# Altium footprint library IPC-SM-782 Section 14.1.1 PBGA 1.5mm.PcbLib: 50 footprints (part 3 of 7)
Each footprint in its own frame and in the unit in brackets; x right, y up, seen from the top. Pads: shape width x height; smd on the part's side, far side on the other; paste and mask are expansions set on the pad; w line width, h text height; cw(c..) or ccw(c..) is an arc to the next point about the centre after c.
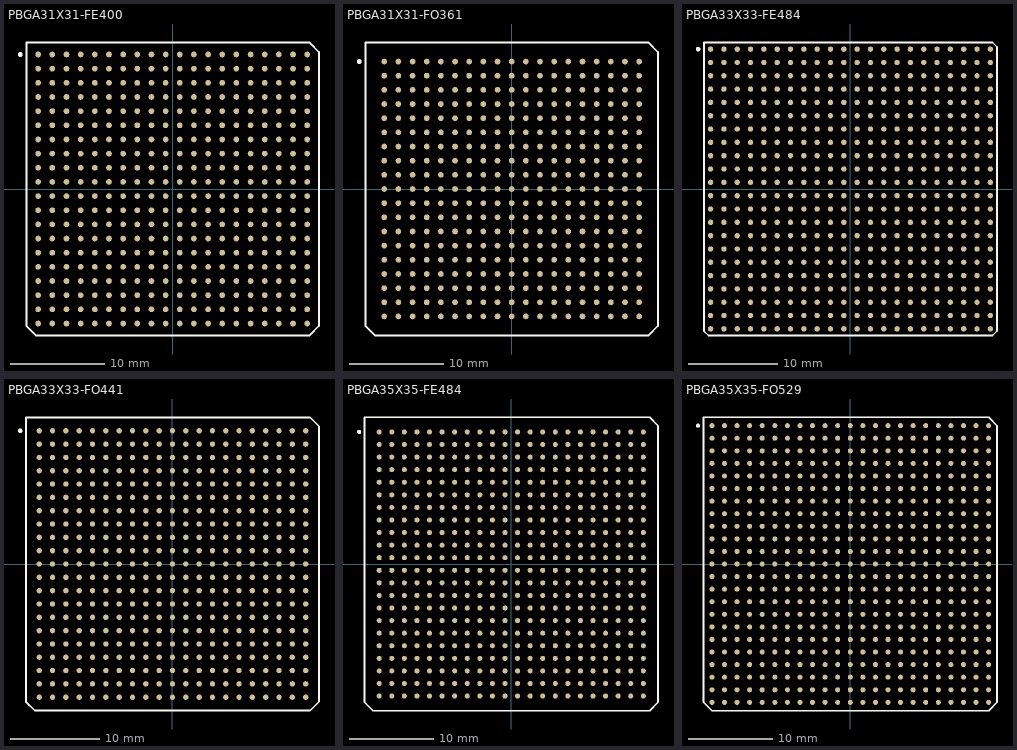
[diagram p2: the footprints below, top view; thin cyan lines are the x and y axes]

## PBGA31X31-FE400 [mm] "BGA; 400 Balls; Body 31 x 31 mm; Pitch 1.5 mm"
height 3.5
pads (400):
  round 0.6 smd: A1(-14.25,14.25) A2(-12.75,14.25) A3(-11.25,14.25) A4(-9.75,14.25) A5(-8.25,14.25) A6(-6.75,14.25) A7(-5.25,14.25) A8(-3.75,14.25) A9(-2.25,14.25) A10(-0.75,14.25) A11(0.75,14.25) A12(2.25,14.25) A13(3.75,14.25) A14(5.25,14.25) A15(6.75,14.25) A16(8.25,14.25) A17(9.75,14.25) A18(11.25,14.25) A19(12.75,14.25) A20(14.25,14.25) B1(-14.25,12.75) B2(-12.75,12.75) B3(-11.25,12.75) B4(-9.75,12.75) B5(-8.25,12.75) B6(-6.75,12.75) B7(-5.25,12.75) B8(-3.75,12.75) B9(-2.25,12.75) B10(-0.75,12.75) B11(0.75,12.75) B12(2.25,12.75) B13(3.75,12.75) B14(5.25,12.75) B15(6.75,12.75) B16(8.25,12.75) B17(9.75,12.75) B18(11.25,12.75) B19(12.75,12.75) B20(14.25,12.75) C1(-14.25,11.25) C2(-12.75,11.25) C3(-11.25,11.25) C4(-9.75,11.25) C5(-8.25,11.25) C6(-6.75,11.25) C7(-5.25,11.25) C8(-3.75,11.25) C9(-2.25,11.25) C10(-0.75,11.25) C11(0.75,11.25) C12(2.25,11.25) C13(3.75,11.25) C14(5.25,11.25) C15(6.75,11.25) C16(8.25,11.25) C17(9.75,11.25) C18(11.25,11.25) C19(12.75,11.25) C20(14.25,11.25) D1(-14.25,9.75) D2(-12.75,9.75) D3(-11.25,9.75) D4(-9.75,9.75) D5(-8.25,9.75) D6(-6.75,9.75) D7(-5.25,9.75) D8(-3.75,9.75) D9(-2.25,9.75) D10(-0.75,9.75) D11(0.75,9.75) D12(2.25,9.75) D13(3.75,9.75) D14(5.25,9.75) D15(6.75,9.75) D16(8.25,9.75) D17(9.75,9.75) D18(11.25,9.75) D19(12.75,9.75) D20(14.25,9.75) E1(-14.25,8.25) E2(-12.75,8.25) E3(-11.25,8.25) E4(-9.75,8.25) E5(-8.25,8.25) E6(-6.75,8.25) E7(-5.25,8.25) E8(-3.75,8.25) E9(-2.25,8.25) E10(-0.75,8.25) E11(0.75,8.25) E12(2.25,8.25) E13(3.75,8.25) E14(5.25,8.25) E15(6.75,8.25) E16(8.25,8.25) E17(9.75,8.25) E18(11.25,8.25) E19(12.75,8.25) E20(14.25,8.25) F1(-14.25,6.75) F2(-12.75,6.75) F3(-11.25,6.75) F4(-9.75,6.75) F5(-8.25,6.75) F6(-6.75,6.75) F7(-5.25,6.75) F8(-3.75,6.75) F9(-2.25,6.75) F10(-0.75,6.75) F11(0.75,6.75) F12(2.25,6.75) F13(3.75,6.75) F14(5.25,6.75) F15(6.75,6.75) F16(8.25,6.75) F17(9.75,6.75) F18(11.25,6.75) F19(12.75,6.75) F20(14.25,6.75) G1(-14.25,5.25) G2(-12.75,5.25) G3(-11.25,5.25) G4(-9.75,5.25) G5(-8.25,5.25) G6(-6.75,5.25) G7(-5.25,5.25) G8(-3.75,5.25) G9(-2.25,5.25) G10(-0.75,5.25) G11(0.75,5.25) G12(2.25,5.25) G13(3.75,5.25) G14(5.25,5.25) G15(6.75,5.25) G16(8.25,5.25) G17(9.75,5.25) G18(11.25,5.25) G19(12.75,5.25) G20(14.25,5.25) H1(-14.25,3.75) H2(-12.75,3.75) H3(-11.25,3.75) H4(-9.75,3.75) H5(-8.25,3.75) H6(-6.75,3.75) H7(-5.25,3.75) H8(-3.75,3.75) H9(-2.25,3.75) H10(-0.75,3.75) H11(0.75,3.75) H12(2.25,3.75) H13(3.75,3.75) H14(5.25,3.75) H15(6.75,3.75) H16(8.25,3.75) H17(9.75,3.75) H18(11.25,3.75) H19(12.75,3.75) H20(14.25,3.75) J1(-14.25,2.25) J2(-12.75,2.25) J3(-11.25,2.25) J4(-9.75,2.25) J5(-8.25,2.25) J6(-6.75,2.25) J7(-5.25,2.25) J8(-3.75,2.25) J9(-2.25,2.25) J10(-0.75,2.25) J11(0.75,2.25) J12(2.25,2.25) J13(3.75,2.25) J14(5.25,2.25) J15(6.75,2.25) J16(8.25,2.25) J17(9.75,2.25) J18(11.25,2.25) J19(12.75,2.25) J20(14.25,2.25) K1(-14.25,0.75) K2(-12.75,0.75) K3(-11.25,0.75) K4(-9.75,0.75) K5(-8.25,0.75) K6(-6.75,0.75) K7(-5.25,0.75) K8(-3.75,0.75) K9(-2.25,0.75) K10(-0.75,0.75) K11(0.75,0.75) K12(2.25,0.75) K13(3.75,0.75) K14(5.25,0.75) K15(6.75,0.75) K16(8.25,0.75) K17(9.75,0.75) K18(11.25,0.75) K19(12.75,0.75) K20(14.25,0.75) L1(-14.25,-0.75) L2(-12.75,-0.75) L3(-11.25,-0.75) L4(-9.75,-0.75) L5(-8.25,-0.75) L6(-6.75,-0.75) L7(-5.25,-0.75) L8(-3.75,-0.75) L9(-2.25,-0.75) L10(-0.75,-0.75) L11(0.75,-0.75) L12(2.25,-0.75) L13(3.75,-0.75) L14(5.25,-0.75) L15(6.75,-0.75) L16(8.25,-0.75) L17(9.75,-0.75) L18(11.25,-0.75) L19(12.75,-0.75) L20(14.25,-0.75) M1(-14.25,-2.25) M2(-12.75,-2.25) M3(-11.25,-2.25) M4(-9.75,-2.25) M5(-8.25,-2.25) M6(-6.75,-2.25) M7(-5.25,-2.25) M8(-3.75,-2.25) M9(-2.25,-2.25) M10(-0.75,-2.25) M11(0.75,-2.25) M12(2.25,-2.25) M13(3.75,-2.25) M14(5.25,-2.25) M15(6.75,-2.25) M16(8.25,-2.25) M17(9.75,-2.25) M18(11.25,-2.25) M19(12.75,-2.25) M20(14.25,-2.25) N1(-14.25,-3.75) N2(-12.75,-3.75) N3(-11.25,-3.75) N4(-9.75,-3.75) N5(-8.25,-3.75) N6(-6.75,-3.75) N7(-5.25,-3.75) N8(-3.75,-3.75) N9(-2.25,-3.75) N10(-0.75,-3.75) N11(0.75,-3.75) N12(2.25,-3.75) N13(3.75,-3.75) N14(5.25,-3.75) N15(6.75,-3.75) N16(8.25,-3.75) N17(9.75,-3.75) N18(11.25,-3.75) N19(12.75,-3.75) N20(14.25,-3.75) P1(-14.25,-5.25) P2(-12.75,-5.25) P3(-11.25,-5.25) P4(-9.75,-5.25) P5(-8.25,-5.25) P6(-6.75,-5.25) P7(-5.25,-5.25) P8(-3.75,-5.25) P9(-2.25,-5.25) P10(-0.75,-5.25) P11(0.75,-5.25) P12(2.25,-5.25) P13(3.75,-5.25) P14(5.25,-5.25) P15(6.75,-5.25) P16(8.25,-5.25) P17(9.75,-5.25) P18(11.25,-5.25) P19(12.75,-5.25) P20(14.25,-5.25) R1(-14.25,-6.75) R2(-12.75,-6.75) R3(-11.25,-6.75) R4(-9.75,-6.75) R5(-8.25,-6.75) R6(-6.75,-6.75) R7(-5.25,-6.75) R8(-3.75,-6.75) R9(-2.25,-6.75) R10(-0.75,-6.75) R11(0.75,-6.75) R12(2.25,-6.75) R13(3.75,-6.75) R14(5.25,-6.75) R15(6.75,-6.75) R16(8.25,-6.75) R17(9.75,-6.75) R18(11.25,-6.75) R19(12.75,-6.75) R20(14.25,-6.75) T1(-14.25,-8.25) T2(-12.75,-8.25) T3(-11.25,-8.25) T4(-9.75,-8.25) T5(-8.25,-8.25) T6(-6.75,-8.25) T7(-5.25,-8.25) T8(-3.75,-8.25) T9(-2.25,-8.25) T10(-0.75,-8.25) T11(0.75,-8.25) T12(2.25,-8.25) T13(3.75,-8.25) T14(5.25,-8.25) T15(6.75,-8.25) T16(8.25,-8.25) T17(9.75,-8.25) T18(11.25,-8.25) T19(12.75,-8.25) T20(14.25,-8.25) U1(-14.25,-9.75) U2(-12.75,-9.75) U3(-11.25,-9.75) U4(-9.75,-9.75) U5(-8.25,-9.75) U6(-6.75,-9.75) U7(-5.25,-9.75) U8(-3.75,-9.75) U9(-2.25,-9.75) U10(-0.75,-9.75) U11(0.75,-9.75) U12(2.25,-9.75) U13(3.75,-9.75) U14(5.25,-9.75) U15(6.75,-9.75) U16(8.25,-9.75) U17(9.75,-9.75) U18(11.25,-9.75) U19(12.75,-9.75) U20(14.25,-9.75) V1(-14.25,-11.25) V2(-12.75,-11.25) V3(-11.25,-11.25) V4(-9.75,-11.25) V5(-8.25,-11.25) V6(-6.75,-11.25) V7(-5.25,-11.25) V8(-3.75,-11.25) V9(-2.25,-11.25) V10(-0.75,-11.25) V11(0.75,-11.25) V12(2.25,-11.25) V13(3.75,-11.25) V14(5.25,-11.25) V15(6.75,-11.25) V16(8.25,-11.25) V17(9.75,-11.25) V18(11.25,-11.25) V19(12.75,-11.25) V20(14.25,-11.25) W1(-14.25,-12.75) W2(-12.75,-12.75) W3(-11.25,-12.75) W4(-9.75,-12.75) W5(-8.25,-12.75) W6(-6.75,-12.75) W7(-5.25,-12.75) W8(-3.75,-12.75) W9(-2.25,-12.75) W10(-0.75,-12.75) W11(0.75,-12.75) W12(2.25,-12.75) W13(3.75,-12.75) W14(5.25,-12.75) W15(6.75,-12.75) W16(8.25,-12.75) W17(9.75,-12.75) W18(11.25,-12.75) W19(12.75,-12.75) W20(14.25,-12.75) Y1(-14.25,-14.25) Y2(-12.75,-14.25) Y3(-11.25,-14.25) Y4(-9.75,-14.25) Y5(-8.25,-14.25) Y6(-6.75,-14.25) Y7(-5.25,-14.25) Y8(-3.75,-14.25) Y9(-2.25,-14.25) Y10(-0.75,-14.25) Y11(0.75,-14.25) Y12(2.25,-14.25) Y13(3.75,-14.25) Y14(5.25,-14.25) Y15(6.75,-14.25) Y16(8.25,-14.25) Y17(9.75,-14.25) Y18(11.25,-14.25) Y19(12.75,-14.25) Y20(14.25,-14.25)
Top Overlay:
  circle w0.25: c-16.155,14.25 r0.125
  lines w0.2: -15.5,-14.5 -15.5,15.5 14.5,15.5 15.5,14.5 15.5,-14.5 14.5,-15.5 -14.5,-15.5 -15.5,-14.5

## PBGA31X31-FO361 [mm] "BGA; 361 Balls; Body 31 x 31 mm; Pitch 1.5 mm"
height 3.5
pads (361):
  round 0.6 smd: A1(-13.5,13.5) A2(-12,13.5) A3(-10.5,13.5) A4(-9,13.5) A5(-7.5,13.5) A6(-6,13.5) A7(-4.5,13.5) A8(-3,13.5) A9(-1.5,13.5) A10(0,13.5) A11(1.5,13.5) A12(3,13.5) A13(4.5,13.5) A14(6,13.5) A15(7.5,13.5) A16(9,13.5) A17(10.5,13.5) A18(12,13.5) A19(13.5,13.5) B1(-13.5,12) B2(-12,12) B3(-10.5,12) B4(-9,12) B5(-7.5,12) B6(-6,12) B7(-4.5,12) B8(-3,12) B9(-1.5,12) B10(0,12) B11(1.5,12) B12(3,12) B13(4.5,12) B14(6,12) B15(7.5,12) B16(9,12) B17(10.5,12) B18(12,12) B19(13.5,12) C1(-13.5,10.5) C2(-12,10.5) C3(-10.5,10.5) C4(-9,10.5) C5(-7.5,10.5) C6(-6,10.5) C7(-4.5,10.5) C8(-3,10.5) C9(-1.5,10.5) C10(0,10.5) C11(1.5,10.5) C12(3,10.5) C13(4.5,10.5) C14(6,10.5) C15(7.5,10.5) C16(9,10.5) C17(10.5,10.5) C18(12,10.5) C19(13.5,10.5) D1(-13.5,9) D2(-12,9) D3(-10.5,9) D4(-9,9) D5(-7.5,9) D6(-6,9) D7(-4.5,9) D8(-3,9) D9(-1.5,9) D10(0,9) D11(1.5,9) D12(3,9) D13(4.5,9) D14(6,9) D15(7.5,9) D16(9,9) D17(10.5,9) D18(12,9) D19(13.5,9) E1(-13.5,7.5) E2(-12,7.5) E3(-10.5,7.5) E4(-9,7.5) E5(-7.5,7.5) E6(-6,7.5) E7(-4.5,7.5) E8(-3,7.5) E9(-1.5,7.5) E10(0,7.5) E11(1.5,7.5) E12(3,7.5) E13(4.5,7.5) E14(6,7.5) E15(7.5,7.5) E16(9,7.5) E17(10.5,7.5) E18(12,7.5) E19(13.5,7.5) F1(-13.5,6) F2(-12,6) F3(-10.5,6) F4(-9,6) F5(-7.5,6) F6(-6,6) F7(-4.5,6) F8(-3,6) F9(-1.5,6) F10(0,6) F11(1.5,6) F12(3,6) F13(4.5,6) F14(6,6) F15(7.5,6) F16(9,6) F17(10.5,6) F18(12,6) F19(13.5,6) G1(-13.5,4.5) G2(-12,4.5) G3(-10.5,4.5) G4(-9,4.5) G5(-7.5,4.5) G6(-6,4.5) G7(-4.5,4.5) G8(-3,4.5) G9(-1.5,4.5) G10(0,4.5) G11(1.5,4.5) G12(3,4.5) G13(4.5,4.5) G14(6,4.5) G15(7.5,4.5) G16(9,4.5) G17(10.5,4.5) G18(12,4.5) G19(13.5,4.5) H1(-13.5,3) H2(-12,3) H3(-10.5,3) H4(-9,3) H5(-7.5,3) H6(-6,3) H7(-4.5,3) H8(-3,3) H9(-1.5,3) H10(0,3) H11(1.5,3) H12(3,3) H13(4.5,3) H14(6,3) H15(7.5,3) H16(9,3) H17(10.5,3) H18(12,3) H19(13.5,3) J1(-13.5,1.5) J2(-12,1.5) J3(-10.5,1.5) J4(-9,1.5) J5(-7.5,1.5) J6(-6,1.5) J7(-4.5,1.5) J8(-3,1.5) J9(-1.5,1.5) J10(0,1.5) J11(1.5,1.5) J12(3,1.5) J13(4.5,1.5) J14(6,1.5) J15(7.5,1.5) J16(9,1.5) J17(10.5,1.5) J18(12,1.5) J19(13.5,1.5) K1(-13.5,0) K2(-12,0) K3(-10.5,0) K4(-9,0) K5(-7.5,0) K6(-6,0) K7(-4.5,0) K8(-3,0) K9(-1.5,0) K10(0,0) K11(1.5,0) K12(3,0) K13(4.5,0) K14(6,0) K15(7.5,0) K16(9,0) K17(10.5,0) K18(12,0) K19(13.5,0) L1(-13.5,-1.5) L2(-12,-1.5) L3(-10.5,-1.5) L4(-9,-1.5) L5(-7.5,-1.5) L6(-6,-1.5) L7(-4.5,-1.5) L8(-3,-1.5) L9(-1.5,-1.5) L10(0,-1.5) L11(1.5,-1.5) L12(3,-1.5) L13(4.5,-1.5) L14(6,-1.5) L15(7.5,-1.5) L16(9,-1.5) L17(10.5,-1.5) L18(12,-1.5) L19(13.5,-1.5) M1(-13.5,-3) M2(-12,-3) M3(-10.5,-3) M4(-9,-3) M5(-7.5,-3) M6(-6,-3) M7(-4.5,-3) M8(-3,-3) M9(-1.5,-3) M10(0,-3) M11(1.5,-3) M12(3,-3) M13(4.5,-3) M14(6,-3) M15(7.5,-3) M16(9,-3) M17(10.5,-3) M18(12,-3) M19(13.5,-3) N1(-13.5,-4.5) N2(-12,-4.5) N3(-10.5,-4.5) N4(-9,-4.5) N5(-7.5,-4.5) N6(-6,-4.5) N7(-4.5,-4.5) N8(-3,-4.5) N9(-1.5,-4.5) N10(0,-4.5) N11(1.5,-4.5) N12(3,-4.5) N13(4.5,-4.5) N14(6,-4.5) N15(7.5,-4.5) N16(9,-4.5) N17(10.5,-4.5) N18(12,-4.5) N19(13.5,-4.5) P1(-13.5,-6) P2(-12,-6) P3(-10.5,-6) P4(-9,-6) P5(-7.5,-6) P6(-6,-6) P7(-4.5,-6) P8(-3,-6) P9(-1.5,-6) P10(0,-6) P11(1.5,-6) P12(3,-6) P13(4.5,-6) P14(6,-6) P15(7.5,-6) P16(9,-6) P17(10.5,-6) P18(12,-6) P19(13.5,-6) R1(-13.5,-7.5) R2(-12,-7.5) R3(-10.5,-7.5) R4(-9,-7.5) R5(-7.5,-7.5) R6(-6,-7.5) R7(-4.5,-7.5) R8(-3,-7.5) R9(-1.5,-7.5) R10(0,-7.5) R11(1.5,-7.5) R12(3,-7.5) R13(4.5,-7.5) R14(6,-7.5) R15(7.5,-7.5) R16(9,-7.5) R17(10.5,-7.5) R18(12,-7.5) R19(13.5,-7.5) T1(-13.5,-9) T2(-12,-9) T3(-10.5,-9) T4(-9,-9) T5(-7.5,-9) T6(-6,-9) T7(-4.5,-9) T8(-3,-9) T9(-1.5,-9) T10(0,-9) T11(1.5,-9) T12(3,-9) T13(4.5,-9) T14(6,-9) T15(7.5,-9) T16(9,-9) T17(10.5,-9) T18(12,-9) T19(13.5,-9) U1(-13.5,-10.5) U2(-12,-10.5) U3(-10.5,-10.5) U4(-9,-10.5) U5(-7.5,-10.5) U6(-6,-10.5) U7(-4.5,-10.5) U8(-3,-10.5) U9(-1.5,-10.5) U10(0,-10.5) U11(1.5,-10.5) U12(3,-10.5) U13(4.5,-10.5) U14(6,-10.5) U15(7.5,-10.5) U16(9,-10.5) U17(10.5,-10.5) U18(12,-10.5) U19(13.5,-10.5) V1(-13.5,-12) V2(-12,-12) V3(-10.5,-12) V4(-9,-12) V5(-7.5,-12) V6(-6,-12) V7(-4.5,-12) V8(-3,-12) V9(-1.5,-12) V10(0,-12) V11(1.5,-12) V12(3,-12) V13(4.5,-12) V14(6,-12) V15(7.5,-12) V16(9,-12) V17(10.5,-12) V18(12,-12) V19(13.5,-12) W1(-13.5,-13.5) W2(-12,-13.5) W3(-10.5,-13.5) W4(-9,-13.5) W5(-7.5,-13.5) W6(-6,-13.5) W7(-4.5,-13.5) W8(-3,-13.5) W9(-1.5,-13.5) W10(0,-13.5) W11(1.5,-13.5) W12(3,-13.5) W13(4.5,-13.5) W14(6,-13.5) W15(7.5,-13.5) W16(9,-13.5) W17(10.5,-13.5) W18(12,-13.5) W19(13.5,-13.5)
Top Overlay:
  circle w0.25: c-16.155,13.5 r0.125
  lines w0.2: -15.5,-14.5 -14.5,-15.5 14.5,-15.5 15.5,-14.5 15.5,14.5 14.5,15.5 -15.5,15.5 -15.5,-14.5

## PBGA33X33-FE484 [mm] "BGA; 484 Balls; Body 33 x 33 mm; Pitch 1.5 mm"
height 3.5
pads (484):
  round 0.6 smd: A1(-15.75,15.75) A2(-14.25,15.75) A3(-12.75,15.75) A4(-11.25,15.75) A5(-9.75,15.75) A6(-8.25,15.75) A7(-6.75,15.75) A8(-5.25,15.75) A9(-3.75,15.75) A10(-2.25,15.75) A11(-0.75,15.75) A12(0.75,15.75) A13(2.25,15.75) A14(3.75,15.75) A15(5.25,15.75) A16(6.75,15.75) A17(8.25,15.75) A18(9.75,15.75) A19(11.25,15.75) A20(12.75,15.75) A21(14.25,15.75) A22(15.75,15.75) AA1(-15.75,-14.25) AA2(-14.25,-14.25) AA3(-12.75,-14.25) AA4(-11.25,-14.25) AA5(-9.75,-14.25) AA6(-8.25,-14.25) AA7(-6.75,-14.25) AA8(-5.25,-14.25) AA9(-3.75,-14.25) AA10(-2.25,-14.25) AA11(-0.75,-14.25) AA12(0.75,-14.25) AA13(2.25,-14.25) AA14(3.75,-14.25) AA15(5.25,-14.25) AA16(6.75,-14.25) AA17(8.25,-14.25) AA18(9.75,-14.25) AA19(11.25,-14.25) AA20(12.75,-14.25) AA21(14.25,-14.25) AA22(15.75,-14.25) AB1(-15.75,-15.75) AB2(-14.25,-15.75) AB3(-12.75,-15.75) AB4(-11.25,-15.75) AB5(-9.75,-15.75) AB6(-8.25,-15.75) AB7(-6.75,-15.75) AB8(-5.25,-15.75) AB9(-3.75,-15.75) AB10(-2.25,-15.75) AB11(-0.75,-15.75) AB12(0.75,-15.75) AB13(2.25,-15.75) AB14(3.75,-15.75) AB15(5.25,-15.75) AB16(6.75,-15.75) AB17(8.25,-15.75) AB18(9.75,-15.75) AB19(11.25,-15.75) AB20(12.75,-15.75) AB21(14.25,-15.75) AB22(15.75,-15.75) B1(-15.75,14.25) B2(-14.25,14.25) B3(-12.75,14.25) B4(-11.25,14.25) B5(-9.75,14.25) B6(-8.25,14.25) B7(-6.75,14.25) B8(-5.25,14.25) B9(-3.75,14.25) B10(-2.25,14.25) B11(-0.75,14.25) B12(0.75,14.25) B13(2.25,14.25) B14(3.75,14.25) B15(5.25,14.25) B16(6.75,14.25) B17(8.25,14.25) B18(9.75,14.25) B19(11.25,14.25) B20(12.75,14.25) B21(14.25,14.25) B22(15.75,14.25) C1(-15.75,12.75) C2(-14.25,12.75) C3(-12.75,12.75) C4(-11.25,12.75) C5(-9.75,12.75) C6(-8.25,12.75) C7(-6.75,12.75) C8(-5.25,12.75) C9(-3.75,12.75) C10(-2.25,12.75) C11(-0.75,12.75) C12(0.75,12.75) C13(2.25,12.75) C14(3.75,12.75) C15(5.25,12.75) C16(6.75,12.75) C17(8.25,12.75) C18(9.75,12.75) C19(11.25,12.75) C20(12.75,12.75) C21(14.25,12.75) C22(15.75,12.75) D1(-15.75,11.25) D2(-14.25,11.25) D3(-12.75,11.25) D4(-11.25,11.25) D5(-9.75,11.25) D6(-8.25,11.25) D7(-6.75,11.25) D8(-5.25,11.25) D9(-3.75,11.25) D10(-2.25,11.25) D11(-0.75,11.25) D12(0.75,11.25) D13(2.25,11.25) D14(3.75,11.25) D15(5.25,11.25) D16(6.75,11.25) D17(8.25,11.25) D18(9.75,11.25) D19(11.25,11.25) D20(12.75,11.25) D21(14.25,11.25) D22(15.75,11.25) E1(-15.75,9.75) E2(-14.25,9.75) E3(-12.75,9.75) E4(-11.25,9.75) E5(-9.75,9.75) E6(-8.25,9.75) E7(-6.75,9.75) E8(-5.25,9.75) E9(-3.75,9.75) E10(-2.25,9.75) E11(-0.75,9.75) E12(0.75,9.75) E13(2.25,9.75) E14(3.75,9.75) E15(5.25,9.75) E16(6.75,9.75) E17(8.25,9.75) E18(9.75,9.75) E19(11.25,9.75) E20(12.75,9.75) E21(14.25,9.75) E22(15.75,9.75) F1(-15.75,8.25) F2(-14.25,8.25) F3(-12.75,8.25) F4(-11.25,8.25) F5(-9.75,8.25) F6(-8.25,8.25) F7(-6.75,8.25) F8(-5.25,8.25) F9(-3.75,8.25) F10(-2.25,8.25) F11(-0.75,8.25) F12(0.75,8.25) F13(2.25,8.25) F14(3.75,8.25) F15(5.25,8.25) F16(6.75,8.25) F17(8.25,8.25) F18(9.75,8.25) F19(11.25,8.25) F20(12.75,8.25) F21(14.25,8.25) F22(15.75,8.25) G1(-15.75,6.75) G2(-14.25,6.75) G3(-12.75,6.75) G4(-11.25,6.75) G5(-9.75,6.75) G6(-8.25,6.75) G7(-6.75,6.75) G8(-5.25,6.75) G9(-3.75,6.75) G10(-2.25,6.75) G11(-0.75,6.75) G12(0.75,6.75) G13(2.25,6.75) G14(3.75,6.75) G15(5.25,6.75) G16(6.75,6.75) G17(8.25,6.75) G18(9.75,6.75) G19(11.25,6.75) G20(12.75,6.75) G21(14.25,6.75) G22(15.75,6.75) H1(-15.75,5.25) H2(-14.25,5.25) H3(-12.75,5.25) H4(-11.25,5.25) H5(-9.75,5.25) H6(-8.25,5.25) H7(-6.75,5.25) H8(-5.25,5.25) H9(-3.75,5.25) H10(-2.25,5.25) H11(-0.75,5.25) H12(0.75,5.25) H13(2.25,5.25) H14(3.75,5.25) H15(5.25,5.25) H16(6.75,5.25) H17(8.25,5.25) H18(9.75,5.25) H19(11.25,5.25) H20(12.75,5.25) H21(14.25,5.25) H22(15.75,5.25) J1(-15.75,3.75) J2(-14.25,3.75) J3(-12.75,3.75) J4(-11.25,3.75) J5(-9.75,3.75) J6(-8.25,3.75) J7(-6.75,3.75) J8(-5.25,3.75) J9(-3.75,3.75) J10(-2.25,3.75) J11(-0.75,3.75) J12(0.75,3.75) J13(2.25,3.75) J14(3.75,3.75) J15(5.25,3.75) J16(6.75,3.75) J17(8.25,3.75) J18(9.75,3.75) J19(11.25,3.75) J20(12.75,3.75) J21(14.25,3.75) J22(15.75,3.75) K1(-15.75,2.25) K2(-14.25,2.25) K3(-12.75,2.25) K4(-11.25,2.25) K5(-9.75,2.25) K6(-8.25,2.25) K7(-6.75,2.25) K8(-5.25,2.25) K9(-3.75,2.25) K10(-2.25,2.25) K11(-0.75,2.25) K12(0.75,2.25) K13(2.25,2.25) K14(3.75,2.25) K15(5.25,2.25) K16(6.75,2.25) K17(8.25,2.25) K18(9.75,2.25) K19(11.25,2.25) K20(12.75,2.25) K21(14.25,2.25) K22(15.75,2.25) L1(-15.75,0.75) L2(-14.25,0.75) L3(-12.75,0.75) L4(-11.25,0.75) L5(-9.75,0.75) L6(-8.25,0.75) L7(-6.75,0.75) L8(-5.25,0.75) L9(-3.75,0.75) L10(-2.25,0.75) L11(-0.75,0.75) L12(0.75,0.75) L13(2.25,0.75) L14(3.75,0.75) L15(5.25,0.75) L16(6.75,0.75) L17(8.25,0.75) L18(9.75,0.75) L19(11.25,0.75) L20(12.75,0.75) L21(14.25,0.75) L22(15.75,0.75) M1(-15.75,-0.75) M2(-14.25,-0.75) M3(-12.75,-0.75) M4(-11.25,-0.75) M5(-9.75,-0.75) M6(-8.25,-0.75) M7(-6.75,-0.75) M8(-5.25,-0.75) M9(-3.75,-0.75) M10(-2.25,-0.75) M11(-0.75,-0.75) M12(0.75,-0.75) M13(2.25,-0.75) M14(3.75,-0.75) M15(5.25,-0.75) M16(6.75,-0.75) M17(8.25,-0.75) M18(9.75,-0.75) M19(11.25,-0.75) M20(12.75,-0.75) M21(14.25,-0.75) M22(15.75,-0.75) N1(-15.75,-2.25) N2(-14.25,-2.25) N3(-12.75,-2.25) N4(-11.25,-2.25) N5(-9.75,-2.25) N6(-8.25,-2.25) N7(-6.75,-2.25) N8(-5.25,-2.25) N9(-3.75,-2.25) N10(-2.25,-2.25) N11(-0.75,-2.25) N12(0.75,-2.25) N13(2.25,-2.25) N14(3.75,-2.25) N15(5.25,-2.25) N16(6.75,-2.25) N17(8.25,-2.25) N18(9.75,-2.25) N19(11.25,-2.25) N20(12.75,-2.25) N21(14.25,-2.25) N22(15.75,-2.25) P1(-15.75,-3.75) P2(-14.25,-3.75) P3(-12.75,-3.75) P4(-11.25,-3.75) P5(-9.75,-3.75) P6(-8.25,-3.75) P7(-6.75,-3.75) P8(-5.25,-3.75) P9(-3.75,-3.75) P10(-2.25,-3.75) P11(-0.75,-3.75) P12(0.75,-3.75) P13(2.25,-3.75) P14(3.75,-3.75) P15(5.25,-3.75) P16(6.75,-3.75) P17(8.25,-3.75) P18(9.75,-3.75) P19(11.25,-3.75) P20(12.75,-3.75) P21(14.25,-3.75) P22(15.75,-3.75) R1(-15.75,-5.25) R2(-14.25,-5.25) R3(-12.75,-5.25) R4(-11.25,-5.25) R5(-9.75,-5.25) R6(-8.25,-5.25) R7(-6.75,-5.25) R8(-5.25,-5.25) R9(-3.75,-5.25) R10(-2.25,-5.25) R11(-0.75,-5.25) R12(0.75,-5.25) R13(2.25,-5.25) R14(3.75,-5.25) R15(5.25,-5.25) R16(6.75,-5.25) R17(8.25,-5.25) R18(9.75,-5.25) R19(11.25,-5.25) R20(12.75,-5.25) R21(14.25,-5.25) R22(15.75,-5.25) T1(-15.75,-6.75) T2(-14.25,-6.75) T3(-12.75,-6.75) T4(-11.25,-6.75) T5(-9.75,-6.75) T6(-8.25,-6.75) T7(-6.75,-6.75) T8(-5.25,-6.75) T9(-3.75,-6.75) T10(-2.25,-6.75) T11(-0.75,-6.75) T12(0.75,-6.75) T13(2.25,-6.75) T14(3.75,-6.75) T15(5.25,-6.75) T16(6.75,-6.75) T17(8.25,-6.75) T18(9.75,-6.75) T19(11.25,-6.75) T20(12.75,-6.75) T21(14.25,-6.75) T22(15.75,-6.75) U1(-15.75,-8.25) U2(-14.25,-8.25) U3(-12.75,-8.25) U4(-11.25,-8.25) U5(-9.75,-8.25) U6(-8.25,-8.25) U7(-6.75,-8.25) U8(-5.25,-8.25) U9(-3.75,-8.25) U10(-2.25,-8.25) U11(-0.75,-8.25) U12(0.75,-8.25) U13(2.25,-8.25) U14(3.75,-8.25) U15(5.25,-8.25) U16(6.75,-8.25) U17(8.25,-8.25) U18(9.75,-8.25) U19(11.25,-8.25) U20(12.75,-8.25) U21(14.25,-8.25) U22(15.75,-8.25) V1(-15.75,-9.75) V2(-14.25,-9.75) V3(-12.75,-9.75) V4(-11.25,-9.75) V5(-9.75,-9.75) V6(-8.25,-9.75) V7(-6.75,-9.75) V8(-5.25,-9.75) V9(-3.75,-9.75) V10(-2.25,-9.75) V11(-0.75,-9.75) V12(0.75,-9.75) V13(2.25,-9.75) V14(3.75,-9.75) V15(5.25,-9.75) V16(6.75,-9.75) V17(8.25,-9.75) V18(9.75,-9.75) V19(11.25,-9.75) V20(12.75,-9.75) V21(14.25,-9.75) V22(15.75,-9.75) W1(-15.75,-11.25) W2(-14.25,-11.25) W3(-12.75,-11.25) W4(-11.25,-11.25) W5(-9.75,-11.25) W6(-8.25,-11.25) W7(-6.75,-11.25) W8(-5.25,-11.25) W9(-3.75,-11.25) W10(-2.25,-11.25) W11(-0.75,-11.25) W12(0.75,-11.25) W13(2.25,-11.25) W14(3.75,-11.25) W15(5.25,-11.25) W16(6.75,-11.25) W17(8.25,-11.25) W18(9.75,-11.25) W19(11.25,-11.25) W20(12.75,-11.25) W21(14.25,-11.25) W22(15.75,-11.25) Y1(-15.75,-12.75) Y2(-14.25,-12.75) Y3(-12.75,-12.75) Y4(-11.25,-12.75) Y5(-9.75,-12.75) Y6(-8.25,-12.75) Y7(-6.75,-12.75) Y8(-5.25,-12.75) Y9(-3.75,-12.75) Y10(-2.25,-12.75) Y11(-0.75,-12.75) Y12(0.75,-12.75) Y13(2.25,-12.75) Y14(3.75,-12.75) Y15(5.25,-12.75) Y16(6.75,-12.75) Y17(8.25,-12.75) Y18(9.75,-12.75) Y19(11.25,-12.75) Y20(12.75,-12.75) Y21(14.25,-12.75) Y22(15.75,-12.75)
Top Overlay:
  circle w0.25: c-17.155,15.75 r0.125
  lines w0.2: -16.5,-15.99 -16.5,16.5 15.99,16.5 16.5,15.99 16.5,-15.99 15.99,-16.5 -15.99,-16.5 -16.5,-15.99

## PBGA33X33-FO441 [mm] "BGA; 441 Balls; Body 33 x 33 mm; Pitch 1.5 mm"
height 3.5
pads (441):
  round 0.6 smd: A1(-15,15) A2(-13.5,15) A3(-12,15) A4(-10.5,15) A5(-9,15) A6(-7.5,15) A7(-6,15) A8(-4.5,15) A9(-3,15) A10(-1.5,15) A11(0,15) A12(1.5,15) A13(3,15) A14(4.5,15) A15(6,15) A16(7.5,15) A17(9,15) A18(10.5,15) A19(12,15) A20(13.5,15) A21(15,15) AA1(-15,-15) AA2(-13.5,-15) AA3(-12,-15) AA4(-10.5,-15) AA5(-9,-15) AA6(-7.5,-15) AA7(-6,-15) AA8(-4.5,-15) AA9(-3,-15) AA10(-1.5,-15) AA11(0,-15) AA12(1.5,-15) AA13(3,-15) AA14(4.5,-15) AA15(6,-15) AA16(7.5,-15) AA17(9,-15) AA18(10.5,-15) AA19(12,-15) AA20(13.5,-15) AA21(15,-15) B1(-15,13.5) B2(-13.5,13.5) B3(-12,13.5) B4(-10.5,13.5) B5(-9,13.5) B6(-7.5,13.5) B7(-6,13.5) B8(-4.5,13.5) B9(-3,13.5) B10(-1.5,13.5) B11(0,13.5) B12(1.5,13.5) B13(3,13.5) B14(4.5,13.5) B15(6,13.5) B16(7.5,13.5) B17(9,13.5) B18(10.5,13.5) B19(12,13.5) B20(13.5,13.5) B21(15,13.5) C1(-15,12) C2(-13.5,12) C3(-12,12) C4(-10.5,12) C5(-9,12) C6(-7.5,12) C7(-6,12) C8(-4.5,12) C9(-3,12) C10(-1.5,12) C11(0,12) C12(1.5,12) C13(3,12) C14(4.5,12) C15(6,12) C16(7.5,12) C17(9,12) C18(10.5,12) C19(12,12) C20(13.5,12) C21(15,12) D1(-15,10.5) D2(-13.5,10.5) D3(-12,10.5) D4(-10.5,10.5) D5(-9,10.5) D6(-7.5,10.5) D7(-6,10.5) D8(-4.5,10.5) D9(-3,10.5) D10(-1.5,10.5) D11(0,10.5) D12(1.5,10.5) D13(3,10.5) D14(4.5,10.5) D15(6,10.5) D16(7.5,10.5) D17(9,10.5) D18(10.5,10.5) D19(12,10.5) D20(13.5,10.5) D21(15,10.5) E1(-15,9) E2(-13.5,9) E3(-12,9) E4(-10.5,9) E5(-9,9) E6(-7.5,9) E7(-6,9) E8(-4.5,9) E9(-3,9) E10(-1.5,9) E11(0,9) E12(1.5,9) E13(3,9) E14(4.5,9) E15(6,9) E16(7.5,9) E17(9,9) E18(10.5,9) E19(12,9) E20(13.5,9) E21(15,9) F1(-15,7.5) F2(-13.5,7.5) F3(-12,7.5) F4(-10.5,7.5) F5(-9,7.5) F6(-7.5,7.5) F7(-6,7.5) F8(-4.5,7.5) F9(-3,7.5) F10(-1.5,7.5) F11(0,7.5) F12(1.5,7.5) F13(3,7.5) F14(4.5,7.5) F15(6,7.5) F16(7.5,7.5) F17(9,7.5) F18(10.5,7.5) F19(12,7.5) F20(13.5,7.5) F21(15,7.5) G1(-15,6) G2(-13.5,6) G3(-12,6) G4(-10.5,6) G5(-9,6) G6(-7.5,6) G7(-6,6) G8(-4.5,6) G9(-3,6) G10(-1.5,6) G11(0,6) G12(1.5,6) G13(3,6) G14(4.5,6) G15(6,6) G16(7.5,6) G17(9,6) G18(10.5,6) G19(12,6) G20(13.5,6) G21(15,6) H1(-15,4.5) H2(-13.5,4.5) H3(-12,4.5) H4(-10.5,4.5) H5(-9,4.5) H6(-7.5,4.5) H7(-6,4.5) H8(-4.5,4.5) H9(-3,4.5) H10(-1.5,4.5) H11(0,4.5) H12(1.5,4.5) H13(3,4.5) H14(4.5,4.5) H15(6,4.5) H16(7.5,4.5) H17(9,4.5) H18(10.5,4.5) H19(12,4.5) H20(13.5,4.5) H21(15,4.5) J1(-15,3) J2(-13.5,3) J3(-12,3) J4(-10.5,3) J5(-9,3) J6(-7.5,3) J7(-6,3) J8(-4.5,3) J9(-3,3) J10(-1.5,3) J11(0,3) J12(1.5,3) J13(3,3) J14(4.5,3) J15(6,3) J16(7.5,3) J17(9,3) J18(10.5,3) J19(12,3) J20(13.5,3) J21(15,3) K1(-15,1.5) K2(-13.5,1.5) K3(-12,1.5) K4(-10.5,1.5) K5(-9,1.5) K6(-7.5,1.5) K7(-6,1.5) K8(-4.5,1.5) K9(-3,1.5) K10(-1.5,1.5) K11(0,1.5) K12(1.5,1.5) K13(3,1.5) K14(4.5,1.5) K15(6,1.5) K16(7.5,1.5) K17(9,1.5) K18(10.5,1.5) K19(12,1.5) K20(13.5,1.5) K21(15,1.5) L1(-15,0) L2(-13.5,0) L3(-12,0) L4(-10.5,0) L5(-9,0) L6(-7.5,0) L7(-6,0) L8(-4.5,0) L9(-3,0) L10(-1.5,0) L11(0,0) L12(1.5,0) L13(3,0) L14(4.5,0) L15(6,0) L16(7.5,0) L17(9,0) L18(10.5,0) L19(12,0) L20(13.5,0) L21(15,0) M1(-15,-1.5) M2(-13.5,-1.5) M3(-12,-1.5) M4(-10.5,-1.5) M5(-9,-1.5) M6(-7.5,-1.5) M7(-6,-1.5) M8(-4.5,-1.5) M9(-3,-1.5) M10(-1.5,-1.5) M11(0,-1.5) M12(1.5,-1.5) M13(3,-1.5) M14(4.5,-1.5) M15(6,-1.5) M16(7.5,-1.5) M17(9,-1.5) M18(10.5,-1.5) M19(12,-1.5) M20(13.5,-1.5) M21(15,-1.5) N1(-15,-3) N2(-13.5,-3) N3(-12,-3) N4(-10.5,-3) N5(-9,-3) N6(-7.5,-3) N7(-6,-3) N8(-4.5,-3) N9(-3,-3) N10(-1.5,-3) N11(0,-3) N12(1.5,-3) N13(3,-3) N14(4.5,-3) N15(6,-3) N16(7.5,-3) N17(9,-3) N18(10.5,-3) N19(12,-3) N20(13.5,-3) N21(15,-3) P1(-15,-4.5) P2(-13.5,-4.5) P3(-12,-4.5) P4(-10.5,-4.5) P5(-9,-4.5) P6(-7.5,-4.5) P7(-6,-4.5) P8(-4.5,-4.5) P9(-3,-4.5) P10(-1.5,-4.5) P11(0,-4.5) P12(1.5,-4.5) P13(3,-4.5) P14(4.5,-4.5) P15(6,-4.5) P16(7.5,-4.5) P17(9,-4.5) P18(10.5,-4.5) P19(12,-4.5) P20(13.5,-4.5) P21(15,-4.5) R1(-15,-6) R2(-13.5,-6) R3(-12,-6) R4(-10.5,-6) R5(-9,-6) R6(-7.5,-6) R7(-6,-6) R8(-4.5,-6) R9(-3,-6) R10(-1.5,-6) R11(0,-6) R12(1.5,-6) R13(3,-6) R14(4.5,-6) R15(6,-6) R16(7.5,-6) R17(9,-6) R18(10.5,-6) R19(12,-6) R20(13.5,-6) R21(15,-6) T1(-15,-7.5) T2(-13.5,-7.5) T3(-12,-7.5) T4(-10.5,-7.5) T5(-9,-7.5) T6(-7.5,-7.5) T7(-6,-7.5) T8(-4.5,-7.5) T9(-3,-7.5) T10(-1.5,-7.5) T11(0,-7.5) T12(1.5,-7.5) T13(3,-7.5) T14(4.5,-7.5) T15(6,-7.5) T16(7.5,-7.5) T17(9,-7.5) T18(10.5,-7.5) T19(12,-7.5) T20(13.5,-7.5) T21(15,-7.5) U1(-15,-9) U2(-13.5,-9) U3(-12,-9) U4(-10.5,-9) U5(-9,-9) U6(-7.5,-9) U7(-6,-9) U8(-4.5,-9) U9(-3,-9) U10(-1.5,-9) U11(0,-9) U12(1.5,-9) U13(3,-9) U14(4.5,-9) U15(6,-9) U16(7.5,-9) U17(9,-9) U18(10.5,-9) U19(12,-9) U20(13.5,-9) U21(15,-9) V1(-15,-10.5) V2(-13.5,-10.5) V3(-12,-10.5) V4(-10.5,-10.5) V5(-9,-10.5) V6(-7.5,-10.5) V7(-6,-10.5) V8(-4.5,-10.5) V9(-3,-10.5) V10(-1.5,-10.5) V11(0,-10.5) V12(1.5,-10.5) V13(3,-10.5) V14(4.5,-10.5) V15(6,-10.5) V16(7.5,-10.5) V17(9,-10.5) V18(10.5,-10.5) V19(12,-10.5) V20(13.5,-10.5) V21(15,-10.5) W1(-15,-12) W2(-13.5,-12) W3(-12,-12) W4(-10.5,-12) W5(-9,-12) W6(-7.5,-12) W7(-6,-12) W8(-4.5,-12) W9(-3,-12) W10(-1.5,-12) W11(0,-12) W12(1.5,-12) W13(3,-12) W14(4.5,-12) W15(6,-12) W16(7.5,-12) W17(9,-12) W18(10.5,-12) W19(12,-12) W20(13.5,-12) W21(15,-12) Y1(-15,-13.5) Y2(-13.5,-13.5) Y3(-12,-13.5) Y4(-10.5,-13.5) Y5(-9,-13.5) Y6(-7.5,-13.5) Y7(-6,-13.5) Y8(-4.5,-13.5) Y9(-3,-13.5) Y10(-1.5,-13.5) Y11(0,-13.5) Y12(1.5,-13.5) Y13(3,-13.5) Y14(4.5,-13.5) Y15(6,-13.5) Y16(7.5,-13.5) Y17(9,-13.5) Y18(10.5,-13.5) Y19(12,-13.5) Y20(13.5,-13.5) Y21(15,-13.5)
Top Overlay:
  circle w0.25: c-17.155,15 r0.125
  lines w0.2: -16.5,-15.5 -15.5,-16.5 15.5,-16.5 16.5,-15.5 16.5,15.5 15.5,16.5 -16.5,16.5 -16.5,-15.5

## PBGA35X35-FE484 [mm] "BGA; 484 Balls; Body 35 x 35 mm; Pitch 1.5 mm"
height 3.5
pads (484):
  round 0.6 smd: A1(-15.75,15.75) A2(-14.25,15.75) A3(-12.75,15.75) A4(-11.25,15.75) A5(-9.75,15.75) A6(-8.25,15.75) A7(-6.75,15.75) A8(-5.25,15.75) A9(-3.75,15.75) A10(-2.25,15.75) A11(-0.75,15.75) A12(0.75,15.75) A13(2.25,15.75) A14(3.75,15.75) A15(5.25,15.75) A16(6.75,15.75) A17(8.25,15.75) A18(9.75,15.75) A19(11.25,15.75) A20(12.75,15.75) A21(14.25,15.75) A22(15.75,15.75) AA1(-15.75,-14.25) AA2(-14.25,-14.25) AA3(-12.75,-14.25) AA4(-11.25,-14.25) AA5(-9.75,-14.25) AA6(-8.25,-14.25) AA7(-6.75,-14.25) AA8(-5.25,-14.25) AA9(-3.75,-14.25) AA10(-2.25,-14.25) AA11(-0.75,-14.25) AA12(0.75,-14.25) AA13(2.25,-14.25) AA14(3.75,-14.25) AA15(5.25,-14.25) AA16(6.75,-14.25) AA17(8.25,-14.25) AA18(9.75,-14.25) AA19(11.25,-14.25) AA20(12.75,-14.25) AA21(14.25,-14.25) AA22(15.75,-14.25) AB1(-15.75,-15.75) AB2(-14.25,-15.75) AB3(-12.75,-15.75) AB4(-11.25,-15.75) AB5(-9.75,-15.75) AB6(-8.25,-15.75) AB7(-6.75,-15.75) AB8(-5.25,-15.75) AB9(-3.75,-15.75) AB10(-2.25,-15.75) AB11(-0.75,-15.75) AB12(0.75,-15.75) AB13(2.25,-15.75) AB14(3.75,-15.75) AB15(5.25,-15.75) AB16(6.75,-15.75) AB17(8.25,-15.75) AB18(9.75,-15.75) AB19(11.25,-15.75) AB20(12.75,-15.75) AB21(14.25,-15.75) AB22(15.75,-15.75) B1(-15.75,14.25) B2(-14.25,14.25) B3(-12.75,14.25) B4(-11.25,14.25) B5(-9.75,14.25) B6(-8.25,14.25) B7(-6.75,14.25) B8(-5.25,14.25) B9(-3.75,14.25) B10(-2.25,14.25) B11(-0.75,14.25) B12(0.75,14.25) B13(2.25,14.25) B14(3.75,14.25) B15(5.25,14.25) B16(6.75,14.25) B17(8.25,14.25) B18(9.75,14.25) B19(11.25,14.25) B20(12.75,14.25) B21(14.25,14.25) B22(15.75,14.25) C1(-15.75,12.75) C2(-14.25,12.75) C3(-12.75,12.75) C4(-11.25,12.75) C5(-9.75,12.75) C6(-8.25,12.75) C7(-6.75,12.75) C8(-5.25,12.75) C9(-3.75,12.75) C10(-2.25,12.75) C11(-0.75,12.75) C12(0.75,12.75) C13(2.25,12.75) C14(3.75,12.75) C15(5.25,12.75) C16(6.75,12.75) C17(8.25,12.75) C18(9.75,12.75) C19(11.25,12.75) C20(12.75,12.75) C21(14.25,12.75) C22(15.75,12.75) D1(-15.75,11.25) D2(-14.25,11.25) D3(-12.75,11.25) D4(-11.25,11.25) D5(-9.75,11.25) D6(-8.25,11.25) D7(-6.75,11.25) D8(-5.25,11.25) D9(-3.75,11.25) D10(-2.25,11.25) D11(-0.75,11.25) D12(0.75,11.25) D13(2.25,11.25) D14(3.75,11.25) D15(5.25,11.25) D16(6.75,11.25) D17(8.25,11.25) D18(9.75,11.25) D19(11.25,11.25) D20(12.75,11.25) D21(14.25,11.25) D22(15.75,11.25) E1(-15.75,9.75) E2(-14.25,9.75) E3(-12.75,9.75) E4(-11.25,9.75) E5(-9.75,9.75) E6(-8.25,9.75) E7(-6.75,9.75) E8(-5.25,9.75) E9(-3.75,9.75) E10(-2.25,9.75) E11(-0.75,9.75) E12(0.75,9.75) E13(2.25,9.75) E14(3.75,9.75) E15(5.25,9.75) E16(6.75,9.75) E17(8.25,9.75) E18(9.75,9.75) E19(11.25,9.75) E20(12.75,9.75) E21(14.25,9.75) E22(15.75,9.75) F1(-15.75,8.25) F2(-14.25,8.25) F3(-12.75,8.25) F4(-11.25,8.25) F5(-9.75,8.25) F6(-8.25,8.25) F7(-6.75,8.25) F8(-5.25,8.25) F9(-3.75,8.25) F10(-2.25,8.25) F11(-0.75,8.25) F12(0.75,8.25) F13(2.25,8.25) F14(3.75,8.25) F15(5.25,8.25) F16(6.75,8.25) F17(8.25,8.25) F18(9.75,8.25) F19(11.25,8.25) F20(12.75,8.25) F21(14.25,8.25) F22(15.75,8.25) G1(-15.75,6.75) G2(-14.25,6.75) G3(-12.75,6.75) G4(-11.25,6.75) G5(-9.75,6.75) G6(-8.25,6.75) G7(-6.75,6.75) G8(-5.25,6.75) G9(-3.75,6.75) G10(-2.25,6.75) G11(-0.75,6.75) G12(0.75,6.75) G13(2.25,6.75) G14(3.75,6.75) G15(5.25,6.75) G16(6.75,6.75) G17(8.25,6.75) G18(9.75,6.75) G19(11.25,6.75) G20(12.75,6.75) G21(14.25,6.75) G22(15.75,6.75) H1(-15.75,5.25) H2(-14.25,5.25) H3(-12.75,5.25) H4(-11.25,5.25) H5(-9.75,5.25) H6(-8.25,5.25) H7(-6.75,5.25) H8(-5.25,5.25) H9(-3.75,5.25) H10(-2.25,5.25) H11(-0.75,5.25) H12(0.75,5.25) H13(2.25,5.25) H14(3.75,5.25) H15(5.25,5.25) H16(6.75,5.25) H17(8.25,5.25) H18(9.75,5.25) H19(11.25,5.25) H20(12.75,5.25) H21(14.25,5.25) H22(15.75,5.25) J1(-15.75,3.75) J2(-14.25,3.75) J3(-12.75,3.75) J4(-11.25,3.75) J5(-9.75,3.75) J6(-8.25,3.75) J7(-6.75,3.75) J8(-5.25,3.75) J9(-3.75,3.75) J10(-2.25,3.75) J11(-0.75,3.75) J12(0.75,3.75) J13(2.25,3.75) J14(3.75,3.75) J15(5.25,3.75) J16(6.75,3.75) J17(8.25,3.75) J18(9.75,3.75) J19(11.25,3.75) J20(12.75,3.75) J21(14.25,3.75) J22(15.75,3.75) K1(-15.75,2.25) K2(-14.25,2.25) K3(-12.75,2.25) K4(-11.25,2.25) K5(-9.75,2.25) K6(-8.25,2.25) K7(-6.75,2.25) K8(-5.25,2.25) K9(-3.75,2.25) K10(-2.25,2.25) K11(-0.75,2.25) K12(0.75,2.25) K13(2.25,2.25) K14(3.75,2.25) K15(5.25,2.25) K16(6.75,2.25) K17(8.25,2.25) K18(9.75,2.25) K19(11.25,2.25) K20(12.75,2.25) K21(14.25,2.25) K22(15.75,2.25) L1(-15.75,0.75) L2(-14.25,0.75) L3(-12.75,0.75) L4(-11.25,0.75) L5(-9.75,0.75) L6(-8.25,0.75) L7(-6.75,0.75) L8(-5.25,0.75) L9(-3.75,0.75) L10(-2.25,0.75) L11(-0.75,0.75) L12(0.75,0.75) L13(2.25,0.75) L14(3.75,0.75) L15(5.25,0.75) L16(6.75,0.75) L17(8.25,0.75) L18(9.75,0.75) L19(11.25,0.75) L20(12.75,0.75) L21(14.25,0.75) L22(15.75,0.75) M1(-15.75,-0.75) M2(-14.25,-0.75) M3(-12.75,-0.75) M4(-11.25,-0.75) M5(-9.75,-0.75) M6(-8.25,-0.75) M7(-6.75,-0.75) M8(-5.25,-0.75) M9(-3.75,-0.75) M10(-2.25,-0.75) M11(-0.75,-0.75) M12(0.75,-0.75) M13(2.25,-0.75) M14(3.75,-0.75) M15(5.25,-0.75) M16(6.75,-0.75) M17(8.25,-0.75) M18(9.75,-0.75) M19(11.25,-0.75) M20(12.75,-0.75) M21(14.25,-0.75) M22(15.75,-0.75) N1(-15.75,-2.25) N2(-14.25,-2.25) N3(-12.75,-2.25) N4(-11.25,-2.25) N5(-9.75,-2.25) N6(-8.25,-2.25) N7(-6.75,-2.25) N8(-5.25,-2.25) N9(-3.75,-2.25) N10(-2.25,-2.25) N11(-0.75,-2.25) N12(0.75,-2.25) N13(2.25,-2.25) N14(3.75,-2.25) N15(5.25,-2.25) N16(6.75,-2.25) N17(8.25,-2.25) N18(9.75,-2.25) N19(11.25,-2.25) N20(12.75,-2.25) N21(14.25,-2.25) N22(15.75,-2.25) P1(-15.75,-3.75) P2(-14.25,-3.75) P3(-12.75,-3.75) P4(-11.25,-3.75) P5(-9.75,-3.75) P6(-8.25,-3.75) P7(-6.75,-3.75) P8(-5.25,-3.75) P9(-3.75,-3.75) P10(-2.25,-3.75) P11(-0.75,-3.75) P12(0.75,-3.75) P13(2.25,-3.75) P14(3.75,-3.75) P15(5.25,-3.75) P16(6.75,-3.75) P17(8.25,-3.75) P18(9.75,-3.75) P19(11.25,-3.75) P20(12.75,-3.75) P21(14.25,-3.75) P22(15.75,-3.75) R1(-15.75,-5.25) R2(-14.25,-5.25) R3(-12.75,-5.25) R4(-11.25,-5.25) R5(-9.75,-5.25) R6(-8.25,-5.25) R7(-6.75,-5.25) R8(-5.25,-5.25) R9(-3.75,-5.25) R10(-2.25,-5.25) R11(-0.75,-5.25) R12(0.75,-5.25) R13(2.25,-5.25) R14(3.75,-5.25) R15(5.25,-5.25) R16(6.75,-5.25) R17(8.25,-5.25) R18(9.75,-5.25) R19(11.25,-5.25) R20(12.75,-5.25) R21(14.25,-5.25) R22(15.75,-5.25) T1(-15.75,-6.75) T2(-14.25,-6.75) T3(-12.75,-6.75) T4(-11.25,-6.75) T5(-9.75,-6.75) T6(-8.25,-6.75) T7(-6.75,-6.75) T8(-5.25,-6.75) T9(-3.75,-6.75) T10(-2.25,-6.75) T11(-0.75,-6.75) T12(0.75,-6.75) T13(2.25,-6.75) T14(3.75,-6.75) T15(5.25,-6.75) T16(6.75,-6.75) T17(8.25,-6.75) T18(9.75,-6.75) T19(11.25,-6.75) T20(12.75,-6.75) T21(14.25,-6.75) T22(15.75,-6.75) U1(-15.75,-8.25) U2(-14.25,-8.25) U3(-12.75,-8.25) U4(-11.25,-8.25) U5(-9.75,-8.25) U6(-8.25,-8.25) U7(-6.75,-8.25) U8(-5.25,-8.25) U9(-3.75,-8.25) U10(-2.25,-8.25) U11(-0.75,-8.25) U12(0.75,-8.25) U13(2.25,-8.25) U14(3.75,-8.25) U15(5.25,-8.25) U16(6.75,-8.25) U17(8.25,-8.25) U18(9.75,-8.25) U19(11.25,-8.25) U20(12.75,-8.25) U21(14.25,-8.25) U22(15.75,-8.25) V1(-15.75,-9.75) V2(-14.25,-9.75) V3(-12.75,-9.75) V4(-11.25,-9.75) V5(-9.75,-9.75) V6(-8.25,-9.75) V7(-6.75,-9.75) V8(-5.25,-9.75) V9(-3.75,-9.75) V10(-2.25,-9.75) V11(-0.75,-9.75) V12(0.75,-9.75) V13(2.25,-9.75) V14(3.75,-9.75) V15(5.25,-9.75) V16(6.75,-9.75) V17(8.25,-9.75) V18(9.75,-9.75) V19(11.25,-9.75) V20(12.75,-9.75) V21(14.25,-9.75) V22(15.75,-9.75) W1(-15.75,-11.25) W2(-14.25,-11.25) W3(-12.75,-11.25) W4(-11.25,-11.25) W5(-9.75,-11.25) W6(-8.25,-11.25) W7(-6.75,-11.25) W8(-5.25,-11.25) W9(-3.75,-11.25) W10(-2.25,-11.25) W11(-0.75,-11.25) W12(0.75,-11.25) W13(2.25,-11.25) W14(3.75,-11.25) W15(5.25,-11.25) W16(6.75,-11.25) W17(8.25,-11.25) W18(9.75,-11.25) W19(11.25,-11.25) W20(12.75,-11.25) W21(14.25,-11.25) W22(15.75,-11.25) Y1(-15.75,-12.75) Y2(-14.25,-12.75) Y3(-12.75,-12.75) Y4(-11.25,-12.75) Y5(-9.75,-12.75) Y6(-8.25,-12.75) Y7(-6.75,-12.75) Y8(-5.25,-12.75) Y9(-3.75,-12.75) Y10(-2.25,-12.75) Y11(-0.75,-12.75) Y12(0.75,-12.75) Y13(2.25,-12.75) Y14(3.75,-12.75) Y15(5.25,-12.75) Y16(6.75,-12.75) Y17(8.25,-12.75) Y18(9.75,-12.75) Y19(11.25,-12.75) Y20(12.75,-12.75) Y21(14.25,-12.75) Y22(15.75,-12.75)
Top Overlay:
  circle w0.25: c-18.155,15.75 r0.125
  lines w0.2: -17.5,-16.5 -17.5,17.5 16.5,17.5 17.5,16.5 17.5,-16.5 16.5,-17.5 -16.5,-17.5 -17.5,-16.5

## PBGA35X35-FO529 [mm] "BGA; 529 Balls; Body 35 x 35 mm; Pitch 1.5 mm"
height 3.5
pads (529):
  round 0.6 smd: A1(-16.5,16.5) A2(-15,16.5) A3(-13.5,16.5) A4(-12,16.5) A5(-10.5,16.5) A6(-9,16.5) A7(-7.5,16.5) A8(-6,16.5) A9(-4.5,16.5) A10(-3,16.5) A11(-1.5,16.5) A12(0,16.5) A13(1.5,16.5) A14(3,16.5) A15(4.5,16.5) A16(6,16.5) A17(7.5,16.5) A18(9,16.5) A19(10.5,16.5) A20(12,16.5) A21(13.5,16.5) A22(15,16.5) A23(16.5,16.5) AA1(-16.5,-13.5) AA2(-15,-13.5) AA3(-13.5,-13.5) AA4(-12,-13.5) AA5(-10.5,-13.5) AA6(-9,-13.5) AA7(-7.5,-13.5) AA8(-6,-13.5) AA9(-4.5,-13.5) AA10(-3,-13.5) AA11(-1.5,-13.5) AA12(0,-13.5) AA13(1.5,-13.5) AA14(3,-13.5) AA15(4.5,-13.5) AA16(6,-13.5) AA17(7.5,-13.5) AA18(9,-13.5) AA19(10.5,-13.5) AA20(12,-13.5) AA21(13.5,-13.5) AA22(15,-13.5) AA23(16.5,-13.5) AB1(-16.5,-15) AB2(-15,-15) AB3(-13.5,-15) AB4(-12,-15) AB5(-10.5,-15) AB6(-9,-15) AB7(-7.5,-15) AB8(-6,-15) AB9(-4.5,-15) AB10(-3,-15) AB11(-1.5,-15) AB12(0,-15) AB13(1.5,-15) AB14(3,-15) AB15(4.5,-15) AB16(6,-15) AB17(7.5,-15) AB18(9,-15) AB19(10.5,-15) AB20(12,-15) AB21(13.5,-15) AB22(15,-15) AB23(16.5,-15) AC1(-16.5,-16.5) AC2(-15,-16.5) AC3(-13.5,-16.5) AC4(-12,-16.5) AC5(-10.5,-16.5) AC6(-9,-16.5) AC7(-7.5,-16.5) AC8(-6,-16.5) AC9(-4.5,-16.5) AC10(-3,-16.5) AC11(-1.5,-16.5) AC12(0,-16.5) AC13(1.5,-16.5) AC14(3,-16.5) AC15(4.5,-16.5) AC16(6,-16.5) AC17(7.5,-16.5) AC18(9,-16.5) AC19(10.5,-16.5) AC20(12,-16.5) AC21(13.5,-16.5) AC22(15,-16.5) AC23(16.5,-16.5) B1(-16.5,15) B2(-15,15) B3(-13.5,15) B4(-12,15) B5(-10.5,15) B6(-9,15) B7(-7.5,15) B8(-6,15) B9(-4.5,15) B10(-3,15) B11(-1.5,15) B12(0,15) B13(1.5,15) B14(3,15) B15(4.5,15) B16(6,15) B17(7.5,15) B18(9,15) B19(10.5,15) B20(12,15) B21(13.5,15) B22(15,15) B23(16.5,15) C1(-16.5,13.5) C2(-15,13.5) C3(-13.5,13.5) C4(-12,13.5) C5(-10.5,13.5) C6(-9,13.5) C7(-7.5,13.5) C8(-6,13.5) C9(-4.5,13.5) C10(-3,13.5) C11(-1.5,13.5) C12(0,13.5) C13(1.5,13.5) C14(3,13.5) C15(4.5,13.5) C16(6,13.5) C17(7.5,13.5) C18(9,13.5) C19(10.5,13.5) C20(12,13.5) C21(13.5,13.5) C22(15,13.5) C23(16.5,13.5) D1(-16.5,12) D2(-15,12) D3(-13.5,12) D4(-12,12) D5(-10.5,12) D6(-9,12) D7(-7.5,12) D8(-6,12) D9(-4.5,12) D10(-3,12) D11(-1.5,12) D12(0,12) D13(1.5,12) D14(3,12) D15(4.5,12) D16(6,12) D17(7.5,12) D18(9,12) D19(10.5,12) D20(12,12) D21(13.5,12) D22(15,12) D23(16.5,12) E1(-16.5,10.5) E2(-15,10.5) E3(-13.5,10.5) E4(-12,10.5) E5(-10.5,10.5) E6(-9,10.5) E7(-7.5,10.5) E8(-6,10.5) E9(-4.5,10.5) E10(-3,10.5) E11(-1.5,10.5) E12(0,10.5) E13(1.5,10.5) E14(3,10.5) E15(4.5,10.5) E16(6,10.5) E17(7.5,10.5) E18(9,10.5) E19(10.5,10.5) E20(12,10.5) E21(13.5,10.5) E22(15,10.5) E23(16.5,10.5) F1(-16.5,9) F2(-15,9) F3(-13.5,9) F4(-12,9) F5(-10.5,9) F6(-9,9) F7(-7.5,9) F8(-6,9) F9(-4.5,9) F10(-3,9) F11(-1.5,9) F12(0,9) F13(1.5,9) F14(3,9) F15(4.5,9) F16(6,9) F17(7.5,9) F18(9,9) F19(10.5,9) F20(12,9) F21(13.5,9) F22(15,9) F23(16.5,9) G1(-16.5,7.5) G2(-15,7.5) G3(-13.5,7.5) G4(-12,7.5) G5(-10.5,7.5) G6(-9,7.5) G7(-7.5,7.5) G8(-6,7.5) G9(-4.5,7.5) G10(-3,7.5) G11(-1.5,7.5) G12(0,7.5) G13(1.5,7.5) G14(3,7.5) G15(4.5,7.5) G16(6,7.5) G17(7.5,7.5) G18(9,7.5) G19(10.5,7.5) G20(12,7.5) G21(13.5,7.5) G22(15,7.5) G23(16.5,7.5) H1(-16.5,6) H2(-15,6) H3(-13.5,6) H4(-12,6) H5(-10.5,6) H6(-9,6) H7(-7.5,6) H8(-6,6) H9(-4.5,6) H10(-3,6) H11(-1.5,6) H12(0,6) H13(1.5,6) H14(3,6) H15(4.5,6) H16(6,6) H17(7.5,6) H18(9,6) H19(10.5,6) H20(12,6) H21(13.5,6) H22(15,6) H23(16.5,6) J1(-16.5,4.5) J2(-15,4.5) J3(-13.5,4.5) J4(-12,4.5) J5(-10.5,4.5) J6(-9,4.5) J7(-7.5,4.5) J8(-6,4.5) J9(-4.5,4.5) J10(-3,4.5) J11(-1.5,4.5) J12(0,4.5) J13(1.5,4.5) J14(3,4.5) J15(4.5,4.5) J16(6,4.5) J17(7.5,4.5) J18(9,4.5) J19(10.5,4.5) J20(12,4.5) J21(13.5,4.5) J22(15,4.5) J23(16.5,4.5) K1(-16.5,3) K2(-15,3) K3(-13.5,3) K4(-12,3) K5(-10.5,3) K6(-9,3) K7(-7.5,3) K8(-6,3) K9(-4.5,3) K10(-3,3) K11(-1.5,3) K12(0,3) K13(1.5,3) K14(3,3) K15(4.5,3) K16(6,3) K17(7.5,3) K18(9,3) K19(10.5,3) K20(12,3) K21(13.5,3) K22(15,3) K23(16.5,3) L1(-16.5,1.5) L2(-15,1.5) L3(-13.5,1.5) L4(-12,1.5) L5(-10.5,1.5) L6(-9,1.5) L7(-7.5,1.5) L8(-6,1.5) L9(-4.5,1.5) L10(-3,1.5) L11(-1.5,1.5) L12(0,1.5) L13(1.5,1.5) L14(3,1.5) L15(4.5,1.5) L16(6,1.5) L17(7.5,1.5) L18(9,1.5) L19(10.5,1.5) L20(12,1.5) L21(13.5,1.5) L22(15,1.5) L23(16.5,1.5) M1(-16.5,0) M2(-15,0) M3(-13.5,0) M4(-12,0) M5(-10.5,0) M6(-9,0) M7(-7.5,0) M8(-6,0) M9(-4.5,0) M10(-3,0) M11(-1.5,0) M12(0,0) M13(1.5,0) M14(3,0) M15(4.5,0) M16(6,0) M17(7.5,0) M18(9,0) M19(10.5,0) M20(12,0) M21(13.5,0) M22(15,0) M23(16.5,0) N1(-16.5,-1.5) N2(-15,-1.5) N3(-13.5,-1.5) N4(-12,-1.5) N5(-10.5,-1.5) N6(-9,-1.5) N7(-7.5,-1.5) N8(-6,-1.5) N9(-4.5,-1.5) N10(-3,-1.5) N11(-1.5,-1.5) N12(0,-1.5) N13(1.5,-1.5) N14(3,-1.5) N15(4.5,-1.5) N16(6,-1.5) N17(7.5,-1.5) N18(9,-1.5) N19(10.5,-1.5) N20(12,-1.5) N21(13.5,-1.5) N22(15,-1.5) N23(16.5,-1.5) P1(-16.5,-3) P2(-15,-3) P3(-13.5,-3) P4(-12,-3) P5(-10.5,-3) P6(-9,-3) P7(-7.5,-3) P8(-6,-3) P9(-4.5,-3) P10(-3,-3) P11(-1.5,-3) P12(0,-3) P13(1.5,-3) P14(3,-3) P15(4.5,-3) P16(6,-3) P17(7.5,-3) P18(9,-3) P19(10.5,-3) P20(12,-3) P21(13.5,-3) P22(15,-3) P23(16.5,-3) R1(-16.5,-4.5) R2(-15,-4.5) R3(-13.5,-4.5) R4(-12,-4.5) R5(-10.5,-4.5) R6(-9,-4.5) R7(-7.5,-4.5) R8(-6,-4.5) R9(-4.5,-4.5) R10(-3,-4.5) R11(-1.5,-4.5) R12(0,-4.5) R13(1.5,-4.5) R14(3,-4.5) R15(4.5,-4.5) R16(6,-4.5) R17(7.5,-4.5) R18(9,-4.5) R19(10.5,-4.5) R20(12,-4.5) R21(13.5,-4.5) R22(15,-4.5) R23(16.5,-4.5) T1(-16.5,-6) T2(-15,-6) T3(-13.5,-6) T4(-12,-6) T5(-10.5,-6) T6(-9,-6) T7(-7.5,-6) T8(-6,-6) T9(-4.5,-6) T10(-3,-6) T11(-1.5,-6) T12(0,-6) T13(1.5,-6) T14(3,-6) T15(4.5,-6) T16(6,-6) T17(7.5,-6) T18(9,-6) T19(10.5,-6) T20(12,-6) T21(13.5,-6) T22(15,-6) T23(16.5,-6) U1(-16.5,-7.5) U2(-15,-7.5) U3(-13.5,-7.5) U4(-12,-7.5) U5(-10.5,-7.5) U6(-9,-7.5) U7(-7.5,-7.5) U8(-6,-7.5) U9(-4.5,-7.5) U10(-3,-7.5) U11(-1.5,-7.5) U12(0,-7.5) U13(1.5,-7.5) U14(3,-7.5) U15(4.5,-7.5) U16(6,-7.5) U17(7.5,-7.5) U18(9,-7.5) U19(10.5,-7.5) U20(12,-7.5) U21(13.5,-7.5) U22(15,-7.5) U23(16.5,-7.5) V1(-16.5,-9) V2(-15,-9) V3(-13.5,-9) V4(-12,-9) V5(-10.5,-9) V6(-9,-9) V7(-7.5,-9) V8(-6,-9) V9(-4.5,-9) V10(-3,-9) V11(-1.5,-9) V12(0,-9) V13(1.5,-9) V14(3,-9) V15(4.5,-9) V16(6,-9) V17(7.5,-9) V18(9,-9) V19(10.5,-9) V20(12,-9) V21(13.5,-9) V22(15,-9) V23(16.5,-9) W1(-16.5,-10.5) W2(-15,-10.5) W3(-13.5,-10.5) W4(-12,-10.5) W5(-10.5,-10.5) W6(-9,-10.5) W7(-7.5,-10.5) W8(-6,-10.5) W9(-4.5,-10.5) W10(-3,-10.5) W11(-1.5,-10.5) W12(0,-10.5) W13(1.5,-10.5) W14(3,-10.5) W15(4.5,-10.5) W16(6,-10.5) W17(7.5,-10.5) W18(9,-10.5) W19(10.5,-10.5) W20(12,-10.5) W21(13.5,-10.5) W22(15,-10.5) W23(16.5,-10.5) Y1(-16.5,-12) Y2(-15,-12) Y3(-13.5,-12) Y4(-12,-12) Y5(-10.5,-12) Y6(-9,-12) Y7(-7.5,-12) Y8(-6,-12) Y9(-4.5,-12) Y10(-3,-12) Y11(-1.5,-12) Y12(0,-12) Y13(1.5,-12) Y14(3,-12) Y15(4.5,-12) Y16(6,-12) Y17(7.5,-12) Y18(9,-12) Y19(10.5,-12) Y20(12,-12) Y21(13.5,-12) Y22(15,-12) Y23(16.5,-12)
Top Overlay:
  circle w0.25: c-18.155,16.5 r0.125
  lines w0.2: -17.5,-16.5 -17.5,17.5 16.5,17.5 17.5,16.5 17.5,-16.5 16.5,-17.5 -16.5,-17.5 -17.5,-16.5